# Altium footprint library PCB - LEADLESS - SON - INFINEON PG-VSON-10 3x3MM.PCBLIB: 1 footprints
Each footprint in its own frame and in the unit in brackets; x right, y up, seen from the top. Pads: shape width x height; smd on the part's side, far side on the other; paste and mask are expansions set on the pad; w line width, h text height; cw(c..) or ccw(c..) is an arc to the next point about the centre after c.
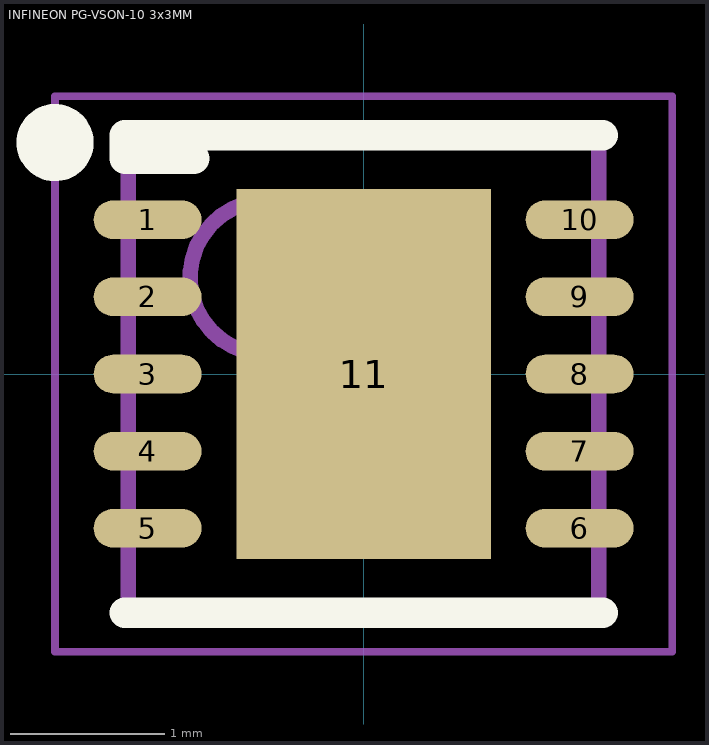
[diagram p0: the footprint, top view; thin cyan lines are the x and y axes]

## INFINEON PG-VSON-10 3x3MM [mm] "QFN, 10-Leads, Body 3.00x3.00mm, Pitch 0.50mm, Thermal Pad 1.65x2.40mm, IPC Medium Density"
height 0.9
pads (11):
  oval 0.7x0.25 smd: 1(-1.4,1) 2(-1.4,0.5) 3(-1.4,0) 4(-1.4,-0.5) 5(-1.4,-1) 6(1.4,-1) 7(1.4,-0.5) 8(1.4,0) 9(1.4,0.5) 10(1.4,1)
  rect 1.65x2.4 smd paste-2539.97: 11(0,0)
Top Overlay:
  circle w0.25: c-2,1.5 r0.125
  lines w0.2: -1.548,-1.548 1.548,-1.548 ; -1.1,1.398 -1.548,1.398 -1.548,1.548 1.548,1.548
Top Paste:
  region: 0.725,-0.1 0.085,-0.1 0.085,-1.1 0.725,-1.1
  rectangle: -0.725,-1.1 -0.085,-0.1
  region: 0.725,1.1 0.085,1.1 0.085,0.1 0.725,0.1
  rectangle: -0.725,0.1 -0.085,1.1
Mechanical 13:
  circle w0.1: c-0.625,0.625 r0.5
  lines w0.1: -1.525,1.525 -1.525,-1.525 1.525,-1.525 1.525,1.525
Mechanical 15:
  lines w0.05: -2,-1.8 2,-1.8 2,1.8 -2,1.8 -2,-1.8
  lines w0.1: -0.5,0 0.5,0 ; 0,-0.5 0,0.5
3D body "INFINEON PG-VSON-10 3x3MM.step": height 0.9, standoff 0, extent -1.526,-1.525 1.526,1.525